# Altium schematic symbol library AUVic_Schematic_Library_Sensors.SchLib: 13 symbols
Pins are listed as number, name and electrical type; pins without a type are passive.

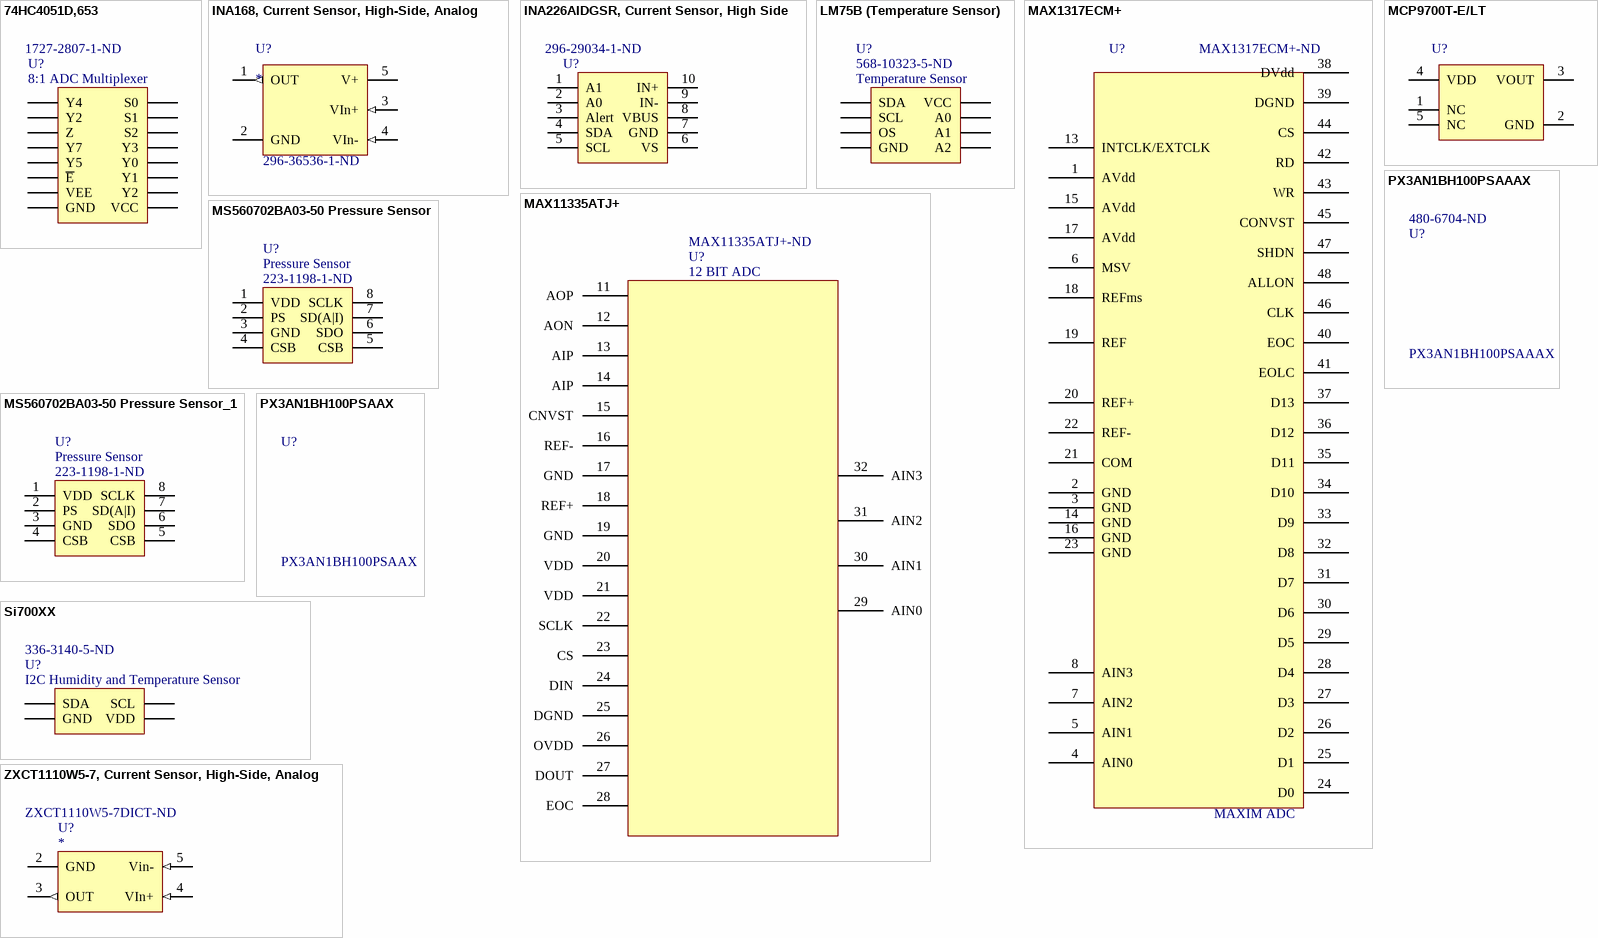
[diagram p0: symbols 74HC4051D,653 to ZXCT1110W5-7, Current Sensor, High-Side, Analog]

## 74HC4051D,653
designator U?, comment 8:1 ADC Multiplexer  Supplier Part Number 1: 1727-2807-1-ND
Made by: Andy Bates; Created on: 2019/09/08; Supplier 1: Digi-Key
footprint SOIC-16
pins: 1 Y4, 2 Y2, 3 Z, 4 Y7, 5 Y5, 6 ~{E}, 7 VEE, 8 GND, 9 S0, 10 S1, 11 S2, 12 Y3, 13 Y0, 14 Y1, 15 Y2, 16 VCC

## INA168, Current Sensor, High-Side, Analog
designator U?  Supplier Part Number 1: 296-36536-1-ND
INA168, Current Sensor, High-Side, Analog; Created By: Jacob Lower; Publisher: AUVic; Created On: 2016-03-16; Supplier 1: Digi-Key
footprint SOT23-5 (SOT23-5 SMT)
pins: 1 OUT (out), 2 GND (power), 3 VIn+ (in), 4 VIn- (in), 5 V+ (power)
1 alternate drawing of the same symbol

## INA226AIDGSR, Current Sensor, High Side
designator U?, comment Supplier Part Number 1: 296-29034-1-ND  (hidden comment: High side current sensor)
0-36V High side current sensor; Made by: Andy Bates; Created on: 2016-09-06; Supplier 1: Digi-Key
footprint MSOP-10
pins: 1 A1, 2 A0, 3 Alert, 4 SDA, 5 SCL, 6 VS, 7 GND, 8 VBUS, 9 IN-, 10 IN+

## LM75B (Temperature Sensor)
designator U?, comment Temperature Sensor  Supplier Part Number 1: 568-10323-5-ND
Made By: Andy Bates; Created On: Oct/21/2016; Supplier 1: Digi-Key
footprint SOIC-8 (LM35B)
footprint SOIC-8
pins: 1 SDA, 2 SCL, 3 OS, 4 GND, 5 A2, 6 A1, 7 A0, 8 VCC

## MAX1317ECM+
designator U?, comment MAXIM ADC  Supplier Part Number 1: MAX1317ECM+-ND
Simultaneous-Sampling ADC; Supplier 1: Digi-Key; Created by: Gabriel
footprint LQFP-48
pins: 1 AVdd, 2 GND, 3 GND, 4 AIN0, 5 AIN1, 6 MSV, 7 AIN2, 8 AIN3, 13 INTCLK/EXTCLK, 14 GND, 15 AVdd, 16 GND, 17 AVdd, 18 REFms, 19 REF, 20 REF+, 21 COM, 22 REF-, 23 GND, 24 D0, 25 D1, 26 D2, 27 D3, 28 D4, 29 D5, 30 D6, 31 D7, 32 D8, 33 D9, 34 D10, 35 D11, 36 D12, 37 D13, 38 DVdd, 39 DGND, 40 EOC, 41 EOLC, 42 RD, 43 WR, 44 CS, 45 CONVST, 46 CLK, 47 SHDN, 48 ALLON

## MAX11335ATJ+
designator U?, comment 12 BIT ADC  Supplier Part Number 1: MAX11335ATJ+-ND
IC ADC 12BIT 500KSPS; Made by: Gabriel Green; Created on: 2017/09/08; Supplier 1: Digi-Key
footprint QFN-EP-48
pins: 11 AOP, 12 AON, 13 AIP, 14 AIP, 15 CNVST, 16 REF-, 17 GND, 18 REF+, 19 GND, 20 VDD, 21 VDD, 22 SCLK, 23 CS, 24 DIN, 25 DGND, 26 OVDD, 27 DOUT, 28 EOC, 29 AIN0, 30 AIN1, 31 AIN2, 32 AIN3

## MCP9700T-E/LT
designator U?
Low-Power Linear Active Thermistor IC, 5-Pin SC-70, Extended Temperature, Tape and Reel; Manufacturer: Microchip; PartNumber: MCP9700T-E/LT; DatasheetVersion: revE, Apr-2009; PackageVersion: revBB, Aug-2009; PackageReference: SC70-LT5; PackageDescription: 5-Lead Plastic Small Outline Transistor (LT) [SC70]; Supplier 1: Digi-Key; Supplier Part Number 1: MCP9700T-E/LTTR-ND; Supplier 2: Digi-Key; Supplier Part Number 2: MCP9700T-E/LTCT-ND; Supplier 3: Digi-Key; Supplier Part Number 3: MCP9700T-E/LTDKR-ND; Supplier 4: Farnell; Supplier Part Number 4: 1084621RL; Supplier 5: Farnell; Supplier Part Number 5: 1084621; Supplier 6: Newark; Supplier Part Number 6: 08J8798; Supplier 7: Mouser; Supplier Part Number 7: 579-MCP9700T-E/LT; Mounting Technology: Surface Mount; Code_IPC: SOT353-5; ComponentLink1Description: Manufacturer URL; ComponentLink1URL: http://www.microchip.com/; ComponentLink2Description: Datasheet; ComponentLink2URL: http://ww1.microchip.com/downloads/en/DeviceDoc/21942e.pdf; ComponentLink3Description: Package Specification; ComponentLink3URL: http://www.microchip.com/stellent/groups/techpub_sg/documents/packagingspec/en012702.pdf
footprint SC70-LT5_N (SOT353, 5-Leads, Body 2x1.3mm, Pitch 0.65mm, Lead Span 2.1mm, IPC Medium Density)
footprint SC70-LT5_L (SOT353, 5-Leads, Body 2x1.3mm, Pitch 0.65mm, Lead Span 2.1mm, IPC High Density)
footprint SC70-LT5_M (SOT353, 5-Leads, Body 2x1.3mm, Pitch 0.65mm, Lead Span 2.1mm, IPC Low Density)
pins: 1 NC, 2 GND (power), 3 VOUT (power), 4 VDD (power), 5 NC

## MS560702BA03-50 Pressure Sensor
designator U?, comment Pressure Sensor  Supplier Part Number 1: 223-1198-1-ND
1kPa to 120 kPa; Made by: Andy Bates; Created on: 2017-09-11; Supplier 1: Digi-Key
footprint TE Pressure Sensor (MS560702BA03-50)
pins: 1 VDD, 2 PS, 3 GND, 4 CSB, 5 CSB, 6 SDO, 7 SD(A|I), 8 SCLK

## MS560702BA03-50 Pressure Sensor_1
designator U?, comment Pressure Sensor  Supplier Part Number 1: 223-1198-1-ND
1kPa to 120 kPa; Made by: Andy Bates; Created on: 2017-09-11; Supplier 1: Digi-Key
footprint TE Pressure Sensor (MS560702BA03-50)
pins: 1 VDD, 2 PS, 3 GND, 4 CSB, 5 CSB, 6 SDO, 7 SD(A|I), 8 SCLK

## PX3AN1BH100PSAAAX
designator U?  Supplier Part Number 1: 480-6704-ND  (mechanical)
Pressure Sensor, 100PSI, Ratiometric, Absolute; Created By: Ashwin Sira; Publisher: AUVic; Created On: 2016-07-09; Supplier 1: Digi-Key
1 alternate drawing of the same symbol

## PX3AN1BH100PSAAX
designator U?  (mechanical)
Pressure Sensor, 100PSI, Ratiometric, Sealed Gage; Created By: Ashwin Sira; Publisher: AUVic; Created On: 2016-07-09; Supplier 1: Digi-Key; Supplier Part Number 1: 480-6704-ND
1 alternate drawing of the same symbol

## Si700XX
designator U?, comment I2C Humidity and Temperature Sensor  Supplier Part Number 1: 336-3140-5-ND
Made by: Andy Bates; Supplier 1: Digi-Key; Created on: 2019/09/08
footprint QFN-6
pins: 1 SDA, 2 GND, 5 VDD, 6 SCL

## ZXCT1110W5-7, Current Sensor, High-Side, Analog
designator U?  Supplier Part Number 1: ZXCT1110W5-7DICT-ND
Diodes Incorporated, ZXCT1110W5-7; Created By: Jacob Lower; Publisher: AUVic; Created On: 2016-03-16; Supplier 1: Digi-Key
footprint SOT23-5 (SOT23-5 SMT)
pins: 2 GND (power), 3 OUT (out), 4 VIn+ (in), 5 Vin- (in)
1 alternate drawing of the same symbol